# EAGLE library part MSPM0C1104SDGS20R (library MSPM0C1104SDGS20R)
ARM Microcontrollers - MCU 24MHz Arm Cortex-M0+ MCU with 16KB flash, 1KB SRAM, 12-bit ADC Source: Datasheet <https://www.ti.com/lit/gpn/mspm0c1104>
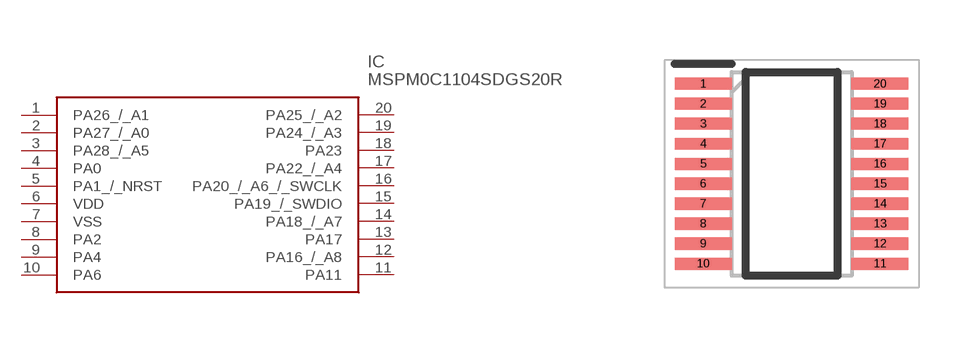
[diagram p0: symbol with the pads of SOP50P490X110-20N; footprint SOP50P490X110-20N]

Designator prefix IC

## MSPM0C1104SDGS20R (Description: ARM Microcontrollers - MCU 24MHz Arm Cortex-M0+ MCU with 16KB flash, 1KB SRAM, 12-bit ADC; Height: 1.1mm; Manufacturer_Name: Texas Instruments; Manufacturer_Part_Number: MSPM0C1104SDGS20R; Mouser_Part_Number: 595-MSPM0C1104SDG20R; Mouser_Price-Stock: https://www.mouser.co.uk/ProductDetail/Texas-Instruments/MSPM0C1104SDGS20R?qs=IKkN%2F947nfCiNls5oQjkDA%3D%3D)  [SOP50P490X110-20N]
1  PA26_/_A1
2  PA27_/_A0
3  PA28_/_A5
4  PA0
5  PA1_/_NRST
6  VDD
7  VSS
8  PA2
9  PA4
10  PA6
11  PA11
12  PA16_/_A8
13  PA17
14  PA18_/_A7
15  PA19_/_SWDIO
16  PA20_/_A6_/_SWCLK
17  PA22_/_A4
18  PA23
19  PA24_/_A3
20  PA25_/_A2

## Footprint SOP50P490X110-20N (pad centres in mm)
VSSOP - 1.1 mm max height
smd 1.425 x 0.3: 1 -2.212,2.25; 2 -2.212,1.75; 3 -2.212,1.25; 4 -2.212,0.75; 5 -2.212,0.25; 6 -2.212,-0.25; 7 -2.212,-0.75; 8 -2.212,-1.25; 9 -2.212,-1.75; 10 -2.212,-2.25; 11 2.212,-2.25; 12 2.212,-1.75; 13 2.212,-1.25; 14 2.212,-0.75; 15 2.212,-0.25; 16 2.212,0.25; 17 2.212,0.75; 18 2.212,1.25; 19 2.212,1.75; 20 2.212,2.25